# EAGLE library part NL-SWN-LTE-NRF9160-SOCKET (library NL-SWN-LTE-NRF9160)
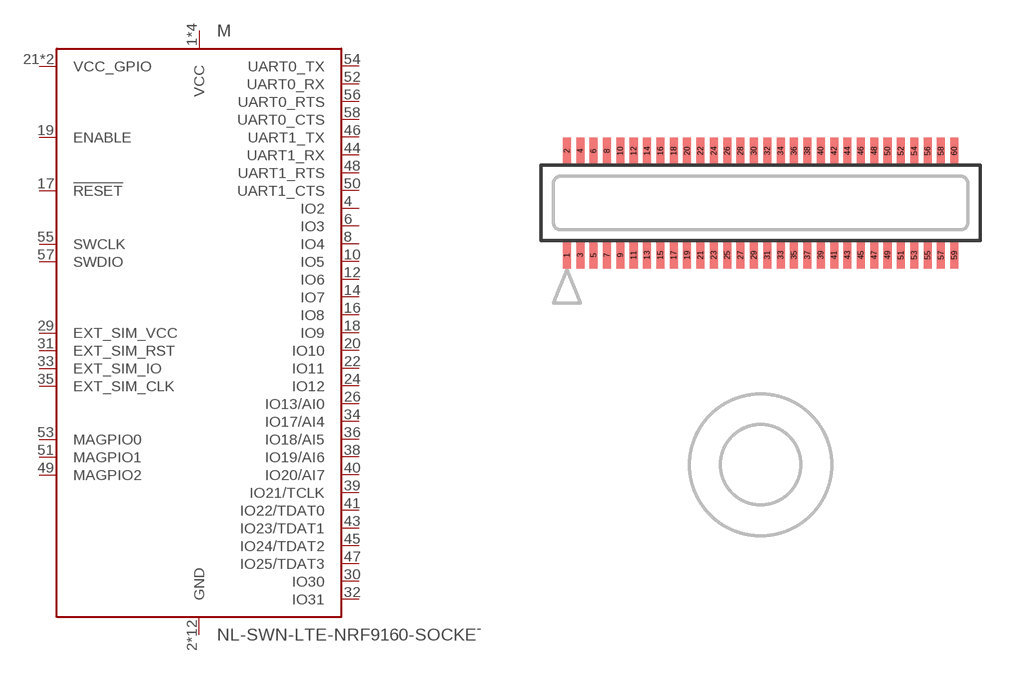
[diagram p0: symbol with the pads of MOLEX-555600607; footprint MOLEX-555600607]

Designator prefix M

## NL-SWN-LTE-NRF9160-SOCKET (MF: MOLEX; MPN: 555600607)  [MOLEX-555600607]
1  VCC  pwr
2  GND  pwr
3  VCC  pwr
4  IO2
5  VCC  pwr
6  IO3
7  VCC  pwr
8  IO4
9  GND  pwr
10  IO5
11  GND  pwr
12  IO6
13  GND  pwr
14  IO7
15  GND  pwr
16  IO8
17  !RESET  in
18  IO9
19  ENABLE  in
20  IO10
21  VCC_GPIO  pwr
22  IO11
23  VCC_GPIO  pwr
24  IO12
25  GND  pwr
26  IO13/AI0
27  GND  pwr
28  GND  pwr
29  EXT_SIM_VCC  out
30  IO30
31  EXT_SIM_RST  out
32  IO31
33  EXT_SIM_IO
34  IO17/AI4
35  EXT_SIM_CLK  out
36  IO18/AI5
37  GND  pwr
38  IO19/AI6
39  IO21/TCLK
40  IO20/AI7
41  IO22/TDAT0
42  GND  pwr
43  IO23/TDAT1
44  UART1_RX  in
45  IO24/TDAT2
46  UART1_TX  out
47  IO25/TDAT3
48  UART1_RTS  out
49  MAGPIO2  out
50  UART1_CTS  in
51  MAGPIO1  out
52  UART0_RX  in
53  MAGPIO0  out
54  UART0_TX  out
55  SWCLK  in
56  UART0_RTS  out
57  SWDIO
58  UART0_CTS  in
59  GND  pwr
60  GND  pwr

## Footprint MOLEX-555600607 (pad centres in mm)
smd 0.3 x 1: 1 -7.25,-1.95; 2 -7.25,1.95; 3 -6.75,-1.95; 4 -6.75,1.95; 5 -6.25,-1.95; 6 -6.25,1.95; 7 -5.75,-1.95; 8 -5.75,1.95; 9 -5.25,-1.95; 10 -5.25,1.95; 11 -4.75,-1.95; 12 -4.75,1.95; 13 -4.25,-1.95; 14 -4.25,1.95; 15 -3.75,-1.95; 16 -3.75,1.95; 17 -3.25,-1.95; 18 -3.25,1.95; 19 -2.75,-1.95; 20 -2.75,1.95; 21 -2.25,-1.95; 22 -2.25,1.95; 23 -1.75,-1.95; 24 -1.75,1.95; 25 -1.25,-1.95; 26 -1.25,1.95; 27 -0.75,-1.95; 28 -0.75,1.95; 29 -0.25,-1.95; 30 -0.25,1.95; 31 0.25,-1.95; 32 0.25,1.95; 33 0.75,-1.95; 34 0.75,1.95; 35 1.25,-1.95; 36 1.25,1.95; 37 1.75,-1.95; 38 1.75,1.95; 39 2.25,-1.95; 40 2.25,1.95; 41 2.75,-1.95; 42 2.75,1.95; 43 3.25,-1.95; 44 3.25,1.95; 45 3.75,-1.95; 46 3.75,1.95; 47 4.25,-1.95; 48 4.25,1.95; 49 4.75,-1.95; 50 4.75,1.95; 51 5.25,-1.95; 52 5.25,1.95; 53 5.75,-1.95; 54 5.75,1.95; 55 6.25,-1.95; 56 6.25,1.95; 57 6.75,-1.95; 58 6.75,1.95; 59 7.25,-1.95; 60 7.25,1.95